# Altium schematic symbol library DRV8874-HTSOP-16.SCHLIB: 1 symbol
Pins are listed as number, name and electrical type; pins without a type are passive.

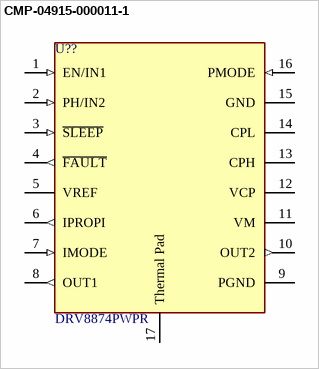
[diagram p0: symbol CMP-04915-000011-1]

## CMP-04915-000011-1
designator U??, comment DRV8874PWPR
DRV8874 H-BRIDGE MOTOR DRIVER; Manufacturer: Texas Instruments; RoHS Compliant: Yes; Manufacturer Part Number: DRV8874PWPR
footprint FP-PWP0016J-MFG
footprint FP-PWP0016J-IPC_C
footprint FP-PWP0016J-IPC_B
footprint FP-PWP0016J-IPC_A
pins: 1 EN/IN1 (in), 2 PH/IN2 (in), 3 ~{SLEEP} (in), 4 ~{FAULT} (out), 5 VREF (power), 6 IPROPI (out), 7 IMODE (in), 8 OUT1 (out), 9 PGND (power), 10 OUT2 (out), 11 VM (power), 12 VCP (power), 13 CPH (power), 14 CPL (power), 15 GND (power), 16 PMODE (in), 17 Thermal Pad (power)